# Altium schematic symbol library Librairie_V1.SchLib: 19 symbols
Pins are listed as number, name and electrical type; pins without a type are passive.

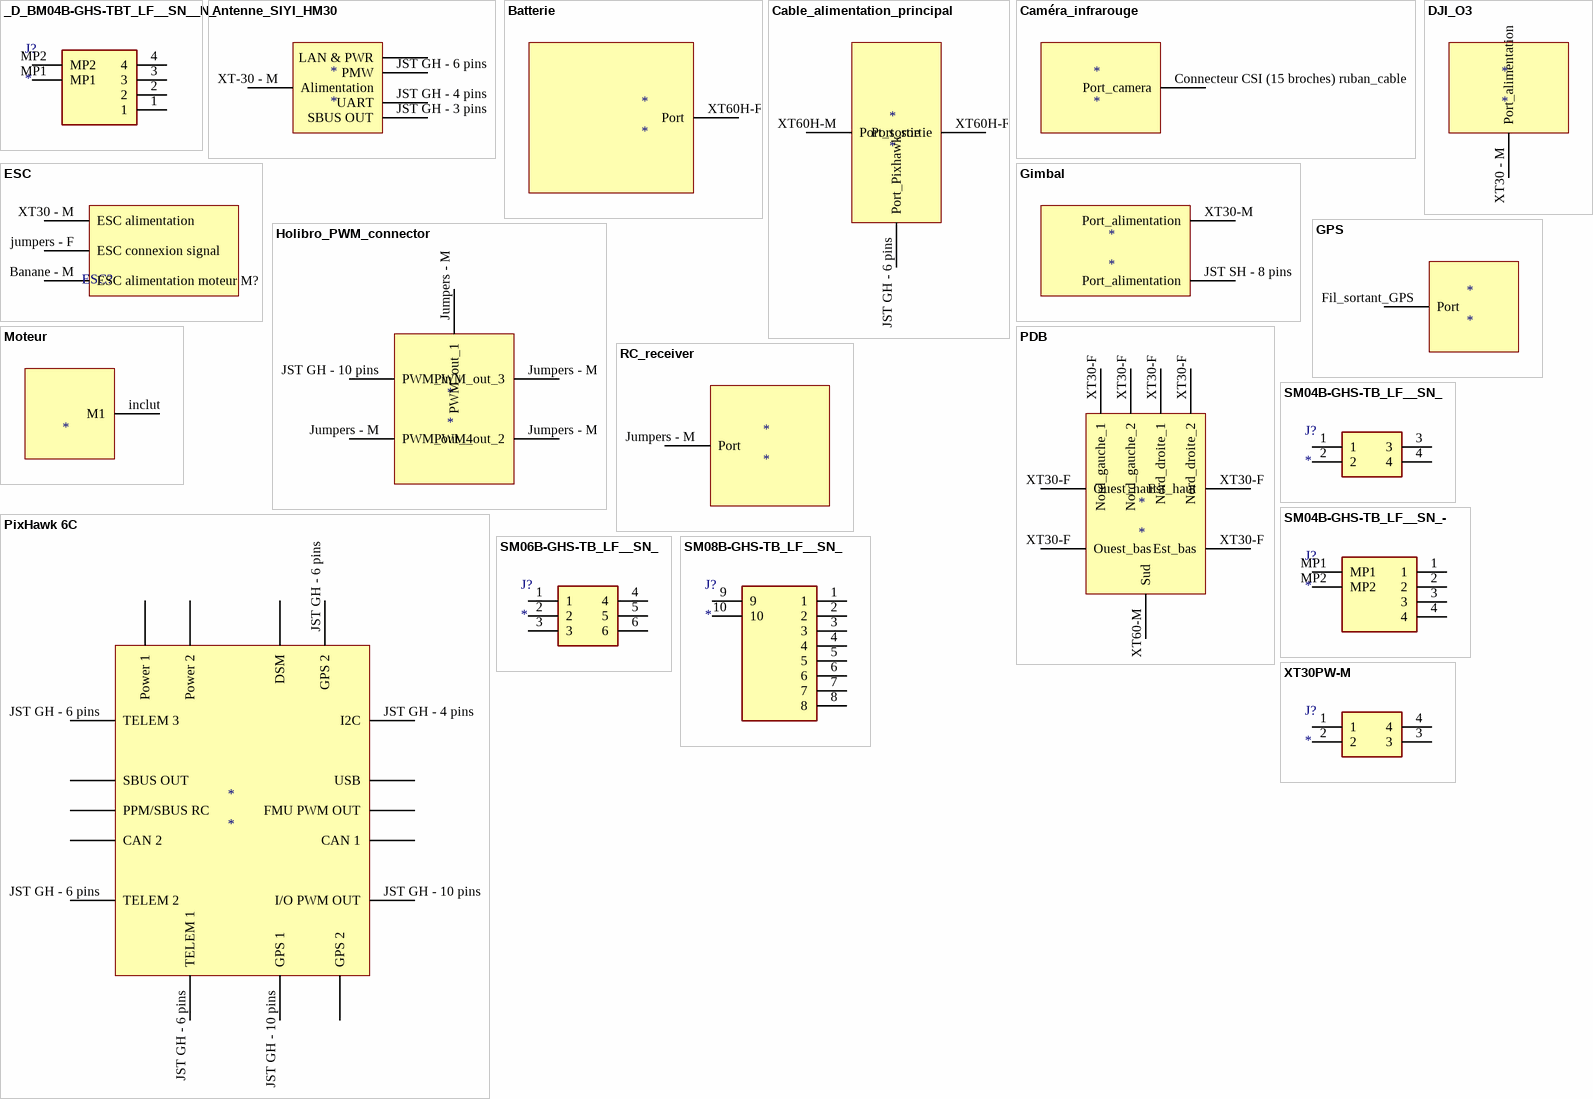
[diagram p0: symbols _D_BM04B-GHS-TBT_LF__SN__N_ to XT30PW-M]

## _D_BM04B-GHS-TBT_LF__SN__N_
designator J?
Connector; Manufacturer_Name: JST (JAPAN SOLDERLESS TERMINALS); Manufacturer_Part_Number: (D)BM04B-GHS-TBT(LF)(SN)(N); Datasheet Link: http://www.jst-mfg.com/product/pdf/eng/eGH.pdf; Height: 4.05mm; Mouser Part Number: N/A; Mouser Price/Stock: https://www.mouser.co.uk/ProductDetail/JST/DBM04B-GHS-TBTLFSNN?qs=wnTfsH77Xs5m30mv3pTSFg%3D%3D
footprint DBM04BGHSTBTLFSNN
pins: 1, 2, 3, 4, MP1, MP2

## Antenne_SIYI_HM30
designator *
pins: ?1 LAN & PWR, JST GH - 3 pins SBUS OUT, JST GH - 4 pins UART, JST GH - 6 pins PMW, XT-30 - M Alimentation

## Batterie
designator *
pins: XT60H-F Port

## Cable_alimentation_principal
designator *
pins: JST GH - 6 pins Port_Pixhawk, XT60H-F Port_sortie, XT60H-M Port_sortie

## Caméra_infrarouge
designator *
pins: Connecteur CSI (15 broches) ruban_cable Port_camera

## DJI_O3
designator *
pins: XT30 - M Port_alimentation

## ESC
designator ESC?  (value not drawn)
pins: Banane - M ESC alimentation moteur M?, jumpers - F ESC connexion signal, XT30 - M ESC alimentation

## Gimbal
designator *
pins: JST SH - 8 pins Port_alimentation, XT30-M Port_alimentation

## GPS
designator *
pins: Fil_sortant_GPS Port

## Holibro_PWM_connector
designator *
pins: JST GH - 10 pins PWM_in, Jumpers - M PWM_out_3, Jumpers - M PWM_out_2, Jumpers - M PWM_out_4, Jumpers - M PWM_out_1

## Moteur
designator M?
pins: inclut M1

## PDB
designator *
pins: XT30-F Est_haut, XT30-F Est_bas, XT30-F Ouest_haut, XT30-F Ouest_bas, XT30-F Nord_gauche_1, XT30-F Nord_gauche_2, XT30-F Nord_droite_1, XT30-F Nord_droite_2, XT60-M Sud

## PixHawk 6C
designator *
pins: ?1 Power 1, ?2 Power 2, ?3 DSM, ?4 USB, ?5 CAN 1, ?6 SBUS OUT, ?7 CAN 2, ?8 GPS 2, ?9 FMU PWM OUT, ?10 PPM/SBUS RC, JST GH - 4 pins I2C, JST GH - 6 pins TELEM 3, JST GH - 6 pins TELEM 2, JST GH - 6 pins TELEM 1, JST GH - 6 pins GPS 2, JST GH - 10 pins I/O PWM OUT, JST GH - 10 pins GPS 1

## RC_receiver
designator *
pins: Jumpers - M Port

## SM04B-GHS-TB_LF__SN_
designator J?
Connector; Manufacturer_Name: JST (JAPAN SOLDERLESS TERMINALS); Manufacturer_Part_Number: SM04B-GHS-TB(LF)(SN); Datasheet Link: http://uk.rs-online.com/web/p/products/7521797; Mouser Part Number: N/A; Mouser Price/Stock: https://www.mouser.co.uk/ProductDetail/JST-Commercial/SM04B-GHS-TBLFSN?qs=QpmGXVUTftEJzKB1YHGCXw%3D%3D; Arrow Part Number: SM04B-GHS-TB(LF)(SN); Arrow Price/Stock: https://www.arrow.com/en/products/sm04b-ghs-tb-lf-sn-/jst-manufacturing?region=europe
footprint SM04B-GHS-TB
pins: 1, 2, 3, 4

## SM04B-GHS-TB_LF__SN_-
designator J?
Connector; Manufacturer_Name: JST (JAPAN SOLDERLESS TERMINALS); Manufacturer_Part_Number: SM04B-GHS-TB(LF)(SN)-; Datasheet Link: http://www.jst-mfg.com/product/pdf/eng/eGH.pdf; Height: 4.35mm; Arrow Part Number: SM04B-GHS-TB(LF)(SN)-; Arrow Price/Stock: https://www.arrow.com/en/products/sm04b-ghs-tb-lf-sn-/jst-manufacturing
footprint SM04BGHSTBLFSN
pins: 1, 2, 3, 4, MP1, MP2

## SM06B-GHS-TB_LF__SN_
designator J?
Connector; Manufacturer_Name: JST (JAPAN SOLDERLESS TERMINALS); Manufacturer_Part_Number: SM06B-GHS-TB(LF)(SN); Datasheet Link: https://datasheet.datasheetarchive.com/originals/distributors/Datasheets_SAMA/e4ef010dc292ea31091454f6c0afb63a.pdf; Mouser Part Number: N/A; Mouser Price/Stock: https://www.mouser.co.uk/ProductDetail/JST-Commercial/SM06B-GHS-TBLFSN?qs=QpmGXVUTftFzTQe43vH9Ig%3D%3D; Arrow Part Number: SM06B-GHS-TB(LF)(SN); Arrow Price/Stock: https://www.arrow.com/en/products/sm06b-ghs-tb-lf-sn/jst-manufacturing
footprint SM06B-GHS-TB
pins: 1, 2, 3, 4, 5, 6

## SM08B-GHS-TB_LF__SN_
designator J?
Connector; Manufacturer_Name: JST (JAPAN SOLDERLESS TERMINALS); Manufacturer_Part_Number: SM08B-GHS-TB(LF)(SN); Datasheet Link: http://www.jst-mfg.com/product/pdf/eng/eGH.pdf; Height: 4.05mm; Mouser Part Number: N/A; Mouser Price/Stock: https://www.mouser.co.uk/ProductDetail/JST-Commercial/SM08B-GHS-TBLFSN?qs=IKkN%2F947nfC94HDZLTJQXQ%3D%3D; Arrow Part Number: SM08B-GHS-TB(LF)(SN); Arrow Price/Stock: https://www.arrow.com/en/products/sm08b-ghs-tb-lf-sn/jst-manufacturing?utm_currency=USD&region=europe
footprint SM08BGHSTBLFSN
pins: 1, 2, 3, 4, 5, 6, 7, 8, 9, 10

## XT30PW-M
designator J?
Connector; Manufacturer_Name: Amass; Manufacturer_Part_Number: XT30PW-M; Datasheet Link: https://www.tme.eu/sl/Document/ce4077e36b79046da520ca73227e15de/XT30PW%20SPEC.pdf; Height: 5mm
footprint XT30PWM
pins: 1, 2, 3, 4